# Altium footprint library MC_FKC_2_5_3-STF-5_08.PcbLib: 1 footprints
Each footprint in its own frame and in the unit in brackets; x right, y up, seen from the top. Pads: shape width x height; smd on the part's side, far side on the other; paste and mask are expansions set on the pad; w line width, h text height; cw(c..) or ccw(c..) is an arc to the next point about the centre after c.

## MC_FKC_2_5_3-STF-5_08 [mm] "FKC 2,5/ 3-STF-5,08"
3D body: height 15, standoff 0, extent -5,-17.3 20,8.3